# Altium schematic symbol library EMC2305-1-AP-TR.SchLib: 1 symbol
Pins are listed as number, name and electrical type; pins without a type are passive.

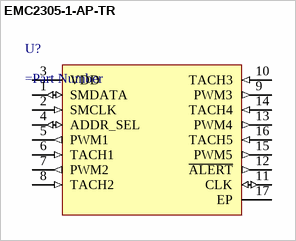
[diagram p0: symbol EMC2305-1-AP-TR]

## EMC2305-1-AP-TR
designator U?
=Description
pins: 1 SMDATA (io), 2 SMCLK (in), 3 VDD (power), 4 ADDR_SEL (io), 5 PWM1 (out), 6 TACH1 (in), 7 PWM2 (out), 8 TACH2 (in), 9 PWM3 (out), 10 TACH3 (in), 11 CLK (io), 12 ~{ALERT} (out), 13 PWM4 (out), 14 TACH4 (in), 15 PWM5 (out), 16 TACH5 (in), 17 EP (power)